# Altium footprint library aiskylab-14Connectors-01FFC-FPC.PcbLib: 118 footprints (part 5 of 8)
Each footprint in its own frame and in the unit in brackets; x right, y up, seen from the top. Pads: shape width x height; smd on the part's side, far side on the other; paste and mask are expansions set on the pad; w line width, h text height; cw(c..) or ccw(c..) is an arc to the next point about the centre after c.
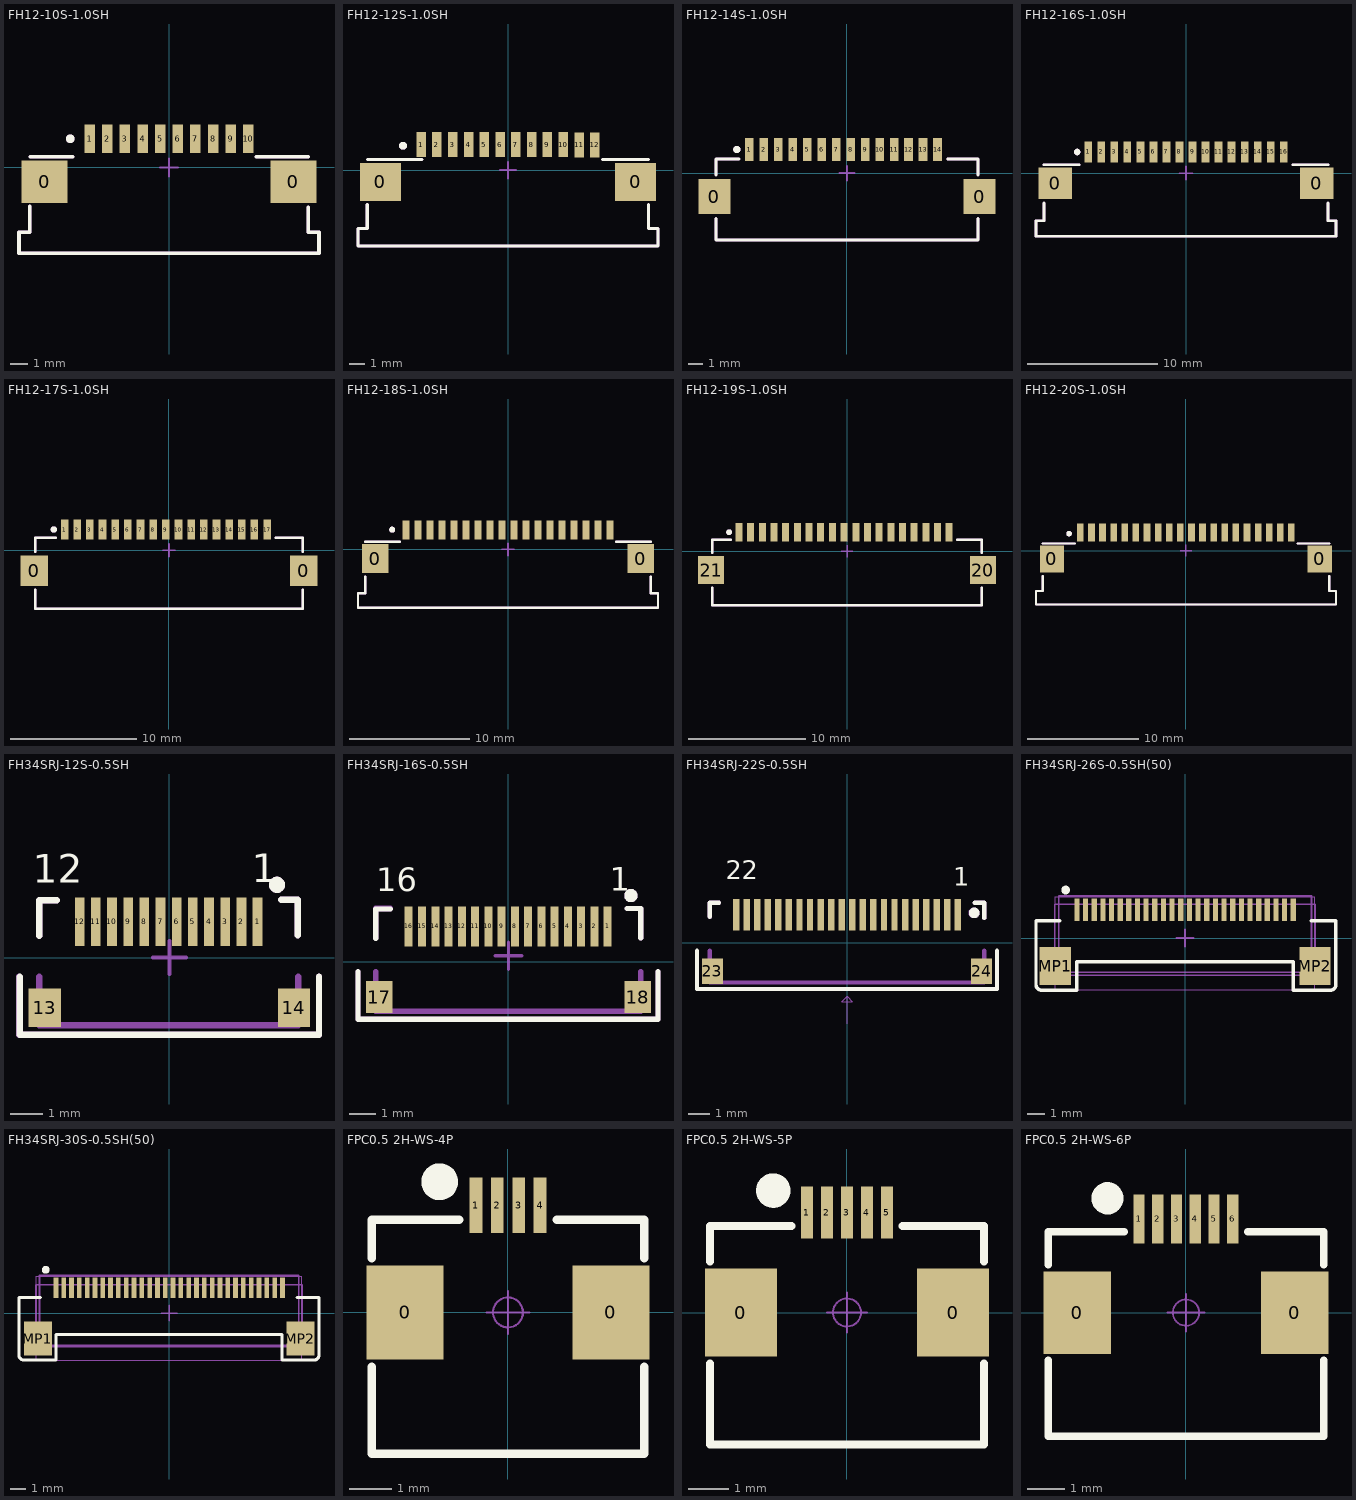
[diagram p4: the footprints below, top view; thin cyan lines are the x and y axes]

## FH12-10S-1.0SH [mm] "Connector; FH12 Series; 10 Position; 1.0mm Spaced Bottom Eccentric Contact"
height 2
pads (12):
  rect 2.6x2.4 smd: 0(-7.061,-0.813) 0(7.061,-0.813)
  rect 0.6x1.6 smd: 1(-4.5,1.625) 2(-3.5,1.625) 3(-2.5,1.625) 4(-1.5,1.625) 5(-0.5,1.625) 6(0.5,1.625) 7(1.5,1.625) 8(2.5,1.625) 9(3.5,1.625) 10(4.5,1.625)
Top Overlay:
  circle w0.25: c-5.6,1.625 r0.125
  lines w0.2: -7.899,-2.21 -7.899,-3.683 -8.509,-3.683 -8.509,-4.877 8.509,-4.877 8.509,-3.683 7.899,-3.683 7.899,-2.261 ; -7.874,0.61 -5.45,0.61 ; 4.95,0.61 7.899,0.61
Top Assembly:
  circle w0.25: c-5.6,1.625 r0.125
  lines w0.2: -7.899,-2.21 -7.899,-3.683 -8.509,-3.683 -8.509,-4.877 8.509,-4.877 8.509,-3.683 7.899,-3.683 7.899,-2.261 ; -7.874,0.61 -5.45,0.61 ; 4.95,0.61 7.899,0.61
Top Component Center:
  lines w0.127: -0.508,0 0.508,0 ; 0,-0.508 0,0.508
3D body: height 2.8, standoff 0, extent -8.5,-4.89 8.5,1.91

## FH12-12S-1.0SH [mm] "Connector; FH12 Series; 10 Position; 1.0mm Spaced Bottom Eccentric Contact"
height 2
pads (14):
  rect 2.6x2.4 smd: 0(-8.077,-0.737) 0(8.077,-0.737)
  rect 0.6x1.6 smd: 1(-5.5,1.625) 2(-4.5,1.625) 3(-3.5,1.625) 4(-2.5,1.625) 5(-1.5,1.625) 6(-0.5,1.625) 7(0.5,1.625) 8(1.5,1.625) 9(2.5,1.625) 10(3.5,1.625) 11(4.5,1.6) 12(5.5,1.6)
Top Overlay:
  circle w0.25: c-6.655,1.549 r0.125
  lines w0.2: -8.915,-2.159 -8.915,-3.683 -9.5,-3.683 -9.5,-4.801 9.5,-4.801 9.5,-3.683 8.89,-3.683 8.89,-2.159 ; -8.89,0.686 -5.45,0.686 ; 6,0.686 8.89,0.686
Top Assembly:
  circle w0.25: c-6.655,1.549 r0.125
  lines w0.2: -8.915,-2.159 -8.915,-3.683 -9.5,-3.683 -9.5,-4.801 9.5,-4.801 9.5,-3.683 8.89,-3.683 8.89,-2.159 ; -8.89,0.686 -5.45,0.686 ; 6,0.686 8.89,0.686
Top Component Center:
  lines w0.127: -0.508,0 0.508,0 ; 0,-0.508 0,0.508
3D body: height 2.8, standoff 0, extent -9.5,-4.89 9.5,1.91

## FH12-14S-1.0SH [mm] "Connector; FH12 Series; 14 Position; 1.0mm Spaced Bottom Eccentric Contact"
height 2
pads (16):
  rect 2.2x2.4 smd: 0(-9.15,-1.625) 0(9.15,-1.625)
  rect 0.6x1.6 smd: 1(-6.75,1.625) 2(-5.75,1.625) 3(-4.75,1.625) 4(-3.75,1.625) 5(-2.75,1.625) 6(-1.75,1.625) 7(-0.75,1.625) 8(0.25,1.625) 9(1.25,1.625) 10(2.25,1.625) 11(3.25,1.625) 12(4.25,1.625) 13(5.25,1.625) 14(6.25,1.625)
Top Overlay:
  circle w0.25: c-7.6,1.625 r0.125
  lines w0.2: -9.05,-3.125 -9.05,-4.625 9.05,-4.625 9.05,-3.125 ; -9.05,-0.125 -9.05,0.975 -7.45,0.975 ; 6.95,0.975 9.05,0.975 9.05,-0.125
Top Assembly:
  circle w0.25: c-7.6,1.625 r0.125
  lines w0.2: -9.05,-3.125 -9.05,-4.625 9.05,-4.625 9.05,-3.125 ; -9.05,-0.125 -9.05,0.975 -7.45,0.975 ; 6.95,0.975 9.05,0.975 9.05,-0.125
Top Component Center:
  lines w0.127: -0.508,0 0.508,0 ; 0,-0.508 0,0.508

## FH12-16S-1.0SH [mm] "Connector; FH12 Series; 16 Position; 1.0mm Spaced Bottom Standard Contact"
height 2
pads (18):
  rect 2.6x2.4 smd: 0(-10.033,-0.762) 0(10.033,-0.762)
  rect 0.6x1.6 smd: 1(-7.5,1.625) 2(-6.5,1.625) 3(-5.5,1.625) 4(-4.5,1.625) 5(-3.5,1.625) 6(-2.5,1.625) 7(-1.5,1.625) 8(-0.5,1.625) 9(0.5,1.625) 10(1.5,1.625) 11(2.5,1.625) 12(3.5,1.625) 13(4.5,1.625) 14(5.5,1.625) 15(6.5,1.625) 16(7.5,1.625)
Top Overlay:
  circle w0.25: c-8.35,1.625 r0.125
  lines w0.2: -10.897,-2.286 -10.897,-3.652 -11.506,-3.652 -11.506,-4.851 11.506,-4.851 11.506,-3.652 10.897,-3.652 10.897,-2.286 ; -10.897,0.635 -8.2,0.635 ; 8.2,0.635 10.897,0.635
Top Assembly:
  circle w0.25: c-8.35,1.625 r0.125
  lines w0.2: -10.897,-2.286 -10.897,-3.652 -11.506,-3.652 -11.506,-4.851 11.506,-4.851 11.506,-3.652 10.897,-3.652 10.897,-2.286 ; -10.897,0.635 -8.2,0.635 ; 8.2,0.635 10.897,0.635
Top Component Center:
  lines w0.127: -0.508,0 0.508,0 ; 0,-0.508 0,0.508
3D body: height 2.8, standoff 0, extent -11.557,-4.895 11.443,1.905

## FH12-17S-1.0SH [mm] "Connector; FH12 Series; 17 Position; 1.0mm Spaced Bottom Eccentric Contact"
height 2
pads (19):
  rect 2.2x2.4 smd: 0(-10.65,-1.625) 0(10.65,-1.625)
  rect 0.6x1.6 smd: 1(-8.25,1.625) 2(-7.25,1.625) 3(-6.25,1.625) 4(-5.25,1.625) 5(-4.25,1.625) 6(-3.25,1.625) 7(-2.25,1.625) 8(-1.25,1.625) 9(-0.25,1.625) 10(0.75,1.625) 11(1.75,1.625) 12(2.75,1.625) 13(3.75,1.625) 14(4.75,1.625) 15(5.75,1.625) 16(6.75,1.625) 17(7.75,1.625)
Top Overlay:
  circle w0.25: c-9.1,1.625 r0.125
  lines w0.2: -10.55,-3.125 -10.55,-4.625 10.55,-4.625 10.55,-3.125 ; -10.55,-0.125 -10.55,0.975 -8.95,0.975 ; 8.45,0.975 10.55,0.975 10.55,-0.125
Top Assembly:
  circle w0.25: c-9.1,1.625 r0.125
  lines w0.2: -10.55,-3.125 -10.55,-4.625 10.55,-4.625 10.55,-3.125 ; -10.55,-0.125 -10.55,0.975 -8.95,0.975 ; 8.45,0.975 10.55,0.975 10.55,-0.125
Top Component Center:
  lines w0.127: -0.508,0 0.508,0 ; 0,-0.508 0,0.508

## FH12-18S-1.0SH [mm] "Connector; FH12 Series; 18 Position; 1.0mm Spaced Bottom Standard Contact"
height 2
pads (20):
  rect 2.2x2.4 smd: 0(-11.049,-0.762) 0(11.049,-0.762)
  rect 0.6x1.6 smd: 1(-8.5,1.625) 2(-7.5,1.625) 3(-6.5,1.625) 4(-5.5,1.625) 5(-4.5,1.625) 6(-3.5,1.625) 7(-2.5,1.625) 8(-1.5,1.625) 9(-0.5,1.625) 10(0.5,1.625) 11(1.5,1.625) 12(2.5,1.625) 13(3.5,1.625) 14(4.5,1.625) 15(5.5,1.625) 16(6.5,1.625) 17(7.5,1.625) 18(8.5,1.625)
Top Overlay:
  circle w0.25: c-9.652,1.651 r0.125
  lines w0.2: -12.5,-4.851 12.5,-4.851 12.5,-3.655 11.89,-3.655 11.89,-2.29 ; -12.501,-4.85 -12.501,-3.651 -11.892,-3.651 -11.892,-2.285 ; -11.9,0.635 -9,0.635 ; 9,0.635 11.9,0.635
Top Assembly:
  circle w0.25: c-9.652,1.651 r0.125
  lines w0.2: -12.5,-4.851 12.5,-4.851 12.5,-3.655 11.89,-3.655 11.89,-2.29 ; -12.501,-4.85 -12.501,-3.651 -11.892,-3.651 -11.892,-2.285 ; -11.9,0.635 -9,0.635 ; 9,0.635 11.9,0.635
Top Component Center:
  lines w0.127: -0.508,0 0.508,0 ; 0,-0.508 0,0.508
3D body: height 2.8, standoff 0, extent -12.5,-4.865 12.5,1.935

## FH12-19S-1.0SH [mm] "Connector; FH12 Series; 19 Position; 1.0mm Spaced Bottom Eccentric Contact"
height 2
pads (21):
  rect 0.6x1.6 smd: 1(-9.25,1.625) 2(-8.25,1.625) 3(-7.25,1.625) 4(-6.25,1.625) 5(-5.25,1.625) 6(-4.25,1.625) 7(-3.25,1.625) 8(-2.25,1.625) 9(-1.25,1.625) 10(-0.25,1.625) 11(0.75,1.625) 12(1.75,1.625) 13(2.75,1.625) 14(3.75,1.625) 15(4.75,1.625) 16(5.75,1.625) 17(6.75,1.625) 18(7.75,1.625) 19(8.75,1.625)
  rect 2.2x2.4 smd: 20(11.65,-1.625) 21(-11.65,-1.625)
Top Overlay:
  circle w0.25: c-10.1,1.625 r0.125
  lines w0.2: -11.55,-3.125 -11.55,-4.625 11.55,-4.625 11.55,-3.125 ; -11.55,-0.125 -11.55,0.975 -9.95,0.975 ; 9.45,0.975 11.55,0.975 11.55,-0.125
Top Assembly:
  circle w0.25: c-10.1,1.625 r0.125
  lines w0.2: -11.55,-3.125 -11.55,-4.625 11.55,-4.625 11.55,-3.125 ; -11.55,-0.125 -11.55,0.975 -9.95,0.975 ; 9.45,0.975 11.55,0.975 11.55,-0.125
Top Component Center:
  lines w0.127: -0.508,0 0.508,0 ; 0,-0.508 0,0.508

## FH12-20S-1.0SH [mm] "Connector; FH12 Series; 20 Position; 1.0mm Spaced Bottom Standard Contact"
height 2
pads (22):
  rect 2.2x2.4 smd: 0(-12.049,-0.762) 0(12.049,-0.762)
  rect 0.6x1.6 smd: 1(-9.5,1.625) 2(-8.5,1.625) 3(-7.5,1.625) 4(-6.5,1.625) 5(-5.5,1.625) 6(-4.5,1.625) 7(-3.5,1.625) 8(-2.5,1.625) 9(-1.5,1.625) 10(-0.5,1.625) 11(0.5,1.625) 12(1.5,1.625) 13(2.5,1.625) 14(3.5,1.625) 15(4.5,1.625) 16(5.5,1.625) 17(6.5,1.625) 18(7.5,1.625) 19(8.5,1.625) 20(9.5,1.625)
Top Overlay:
  circle w0.25: c-10.516,1.524 r0.125
  lines w0.2: -13.489,-4.85 -13.489,-3.651 -12.879,-3.651 -12.879,-2.285 ; -13.487,-4.851 13.513,-4.851 13.513,-3.655 12.903,-3.655 12.903,-2.29 ; -12.903,0.635 -10.003,0.635 ; 10.054,0.635 12.903,0.635
Top Assembly:
  circle w0.25: c-10.516,1.524 r0.125
  lines w0.2: -13.489,-4.85 -13.489,-3.651 -12.879,-3.651 -12.879,-2.285 ; -13.487,-4.851 13.513,-4.851 13.513,-3.655 12.903,-3.655 12.903,-2.29 ; -12.903,0.635 -10.003,0.635 ; 10.054,0.635 12.903,0.635
Top Component Center:
  lines w0.127: -0.508,0 0.508,0 ; 0,-0.508 0,0.508
3D body: height 2.8, standoff 0, extent -13.5,-4.865 13.5,1.935

## FH34SRJ-12S-0.5SH [mm]
pads (14):
  rect 0.3x1.5 smd: 1(2.725,1.112) 2(2.225,1.112) 3(1.725,1.112) 4(1.225,1.112) 5(0.725,1.112) 6(0.225,1.112) 7(-0.275,1.112) 8(-0.775,1.112) 9(-1.275,1.112) 10(-1.775,1.112) 11(-2.275,1.112) 12(-2.775,1.112)
  rect 1x1.2 smd: 13(-3.85,-1.55) 14(3.85,-1.55)
Top Overlay:
  circle w0.25: c3.325,2.25 r0.125
  lines w0.2: -4.623,-0.587 -4.623,-2.388 4.623,-2.388 4.623,-0.587 ; -4.022,0.669 -4.022,1.769 -3.48,1.769 ; 3.454,1.787 3.967,1.787 3.967,0.687
  text "1" at 2.55,2.039 h1.5
  text "12" at -4.225,2.014 h1.5
Top Designator:
  text ".Designator" at -7.618,-0.195 h1.52
Top Assembly:
  circle w0.25: c3.325,2.25 r0.125
  lines w0.2: -4.025,-0.587 -4.025,-2.087 3.975,-2.087 3.975,-0.587 ; -4.022,0.669 -4.022,1.769 -3.48,1.769 ; 3.454,1.787 3.967,1.787 3.967,0.687
  text "1" at 2.55,2.039 h1.5
  text "12" at -4.225,2.014 h1.5
Top Component Center:
  lines w0.127: -0.508,0 0.508,0 ; 0,-0.508 0,0.508
Top Component Outline:
  circle w0.25: c3.325,2.25 r0.125
  lines w0.2: -4.648,-0.587 -4.648,-2.388 4.623,-2.388 4.623,-0.587 ; -4.022,0.669 -4.022,1.769 -3.48,1.769 ; 3.454,1.787 3.967,1.787 3.967,0.687
3D body: height 1, standoff 0, extent -4.025,-2.012 3.975,1.788

## FH34SRJ-16S-0.5SH [mm]
pads (18):
  rect 0.3x1.5 smd: 1(3.743,1.331) 2(3.243,1.331) 3(2.743,1.331) 4(2.243,1.331) 5(1.743,1.331) 6(1.243,1.331) 7(0.743,1.331) 8(0.243,1.331) 9(-0.257,1.331) 10(-0.757,1.331) 11(-1.257,1.331) 12(-1.757,1.331) 13(-2.257,1.331) 14(-2.757,1.331) 15(-3.257,1.331) 16(-3.768,1.331)
  rect 1x1.2 smd: 17(-4.868,-1.331) 18(4.868,-1.331)
Top Overlay:
  circle w0.25: c4.618,2.494 r0.125
  lines w0.2: -5.675,-0.369 -5.675,-2.169 5.64,-2.169 5.64,-0.369 ; -5.004,0.888 -5.004,1.988 -4.462,1.988 ; 4.472,2.006 4.985,2.006 4.985,0.906
  text "1" at 3.818,2.383 h1.5
  text "16" at -4.982,2.358 h1.5
Top Designator:
  text ".Designator" at -7.618,0.017 h1.52
Top Assembly:
  circle w0.25: c4.618,2.494 r0.125
  lines w0.2: -5,-0.369 -5,-1.869 4.993,-1.869 4.993,-0.369 ; -5,0.9 -5,2 -4.458,2 ; 4.472,2.006 4.985,2.006 4.985,0.906
  text "1" at 3.818,2.383 h1.5
  text "16" at -4.982,2.358 h1.5
Top Component Center:
  lines w0.127: -0.508,0.225 0.508,0.225 ; 0,-0.283 0,0.733
Top Component Outline:
  circle w0.25: c4.618,2.494 r0.125
  lines w0.2: -5.675,-0.369 -5.675,-2.169 5.64,-2.169 5.64,-0.369 ; -5.004,0.913 -5.004,2.013 -4.462,2.013 ; 4.472,2.006 4.985,2.006 4.985,0.906
3D body: height 1, standoff 0, extent -5,-1.9 5,1.9

## FH34SRJ-22S-0.5SH [mm]
pads (24):
  rect 0.3x1.5 smd: 1(5.25,1.331) 2(4.75,1.331) 3(4.25,1.331) 4(3.75,1.331) 5(3.25,1.331) 6(2.75,1.331) 7(2.25,1.331) 8(1.75,1.331) 9(1.25,1.331) 10(0.75,1.331) 11(0.25,1.331) 12(-0.25,1.331) 13(-0.75,1.331) 14(-1.25,1.331) 15(-1.75,1.331) 16(-2.25,1.331) 17(-2.75,1.331) 18(-3.25,1.331) 19(-3.75,1.331) 20(-4.25,1.331) 21(-4.75,1.331) 22(-5.25,1.331)
  rect 1x1.2 smd: 23(-6.375,-1.331) 24(6.375,-1.331)
Top Overlay:
  circle w0.25: c6.025,1.425 r0.125
  lines w0.2: -7.1,-0.369 -7.1,-2.175 7.1,-2.175 7.1,-0.369 ; -6.5,1.238 -6.5,1.9 -6.058,1.9 ; 6.05,1.9 6.492,1.9 6.492,1.181
  text "1" at 5.025,2.4 h1.5
  text "22" at -5.75,2.7 h1.5
Top Designator:
  text ".Designator" at -3.434,-0.345 h1.52
Top Assembly:
  circle w0.25: c6.025,1.425 r0.125
  lines w0.05: 0,-3.825 0,-2.775 ; 0,-2.775 -0.25,-2.775 0,-2.525 ; 0,-2.775 0,-2.525 ; 0,-2.775 0,-2.525 ; 0,-2.775 0.25,-2.775 0,-2.525
  lines w0.2: -6.5,-0.369 -6.5,-1.869 6.5,-1.869 6.5,-0.369 ; -6.5,1.238 -6.5,1.9 -6.058,1.9 ; 6.05,1.9 6.492,1.9 6.492,1.181
Top Component Outline:
  circle w0.25: c6,1.425 r0.125
  lines w0.2: -6.5,-0.369 -6.5,-1.869 6.5,-1.869 6.5,-0.369 ; -6.5,1.238 -6.5,1.9 -6.058,1.9 ; 6.05,1.9 6.492,1.9 6.492,1.181
3D body: height 1, standoff 0, extent -6.5,-1.9 6.5,1.9

## FH34SRJ-26S-0.5SH(50) [mm]
pads (28):
  rect 0.3x1.3 smd paste-0.025: 1(-6.25,1.625) 2(-5.75,1.625) 3(-5.25,1.625) 4(-4.75,1.625) 5(-4.25,1.625) 6(-3.75,1.625) 7(-3.25,1.625) 8(-2.75,1.625) 9(-2.25,1.625) 10(-1.75,1.625) 11(-1.25,1.625) 12(-0.75,1.625) 13(-0.25,1.625) 14(0.25,1.625) 15(0.75,1.625) 16(1.25,1.625) 17(1.75,1.625) 18(2.25,1.625) 19(2.75,1.625) 20(3.25,1.625) 21(3.75,1.625) 22(4.25,1.625) 23(4.75,1.625) 24(5.25,1.625) 25(5.75,1.625) 26(6.25,1.625)
  rect 1.8x2.2 smd: MP1(-7.5,-1.625) MP2(7.5,-1.625)
Top Overlay:
  circle w0.25: c-6.9,2.775 r0.125
  lines w0.2: -7.25,1 -8.612,1 -8.612,-2.705 ccw(c-8.3,-2.692) -8.287,-3.005 -6.25,-3.005 -6.25,-1.375 6.25,-1.375 6.25,-3.005 8.375,-3.005 ; 7.3,1 8.663,1 ; 8.338,-3.005 ccw(c8.387,-2.68) 8.713,-2.73 8.713,1
Top Designator:
  text ".Designator" at -6.618,-0.483 h1.52
Top Assembly:
  lines w0.1: -7.3,2.425 7.3,2.425 7.3,-2.15 -7.3,-2.15 -7.3,2.425
  text "1" at -7.1,2.625 h1.14
Top Component Center:
  lines w0.1: -0.5,0 0.5,0 ; 0,-0.5 0,0.5
Top Component Outline:
  lines w0.05: -7.5,-3 -7.5,2.375 7.5,2.375 7.5,-3 -7.5,-3
Top 3D Body:
  lines w0.1: -7.525,-1.975 -7.525,1.95 7.525,1.95 7.525,-1.975 -7.525,-1.975
3D body: height 1, standoff 0, extent -7.5,-1.9 7.5,1.9

## FH34SRJ-30S-0.5SH(50) [mm]
pads (32):
  rect 0.3x1.3 smd paste-0.025: 1(-7.25,1.625) 2(-6.75,1.625) 3(-6.25,1.625) 4(-5.75,1.625) 5(-5.25,1.625) 6(-4.75,1.625) 7(-4.25,1.625) 8(-3.75,1.625) 9(-3.25,1.625) 10(-2.75,1.625) 11(-2.25,1.625) 12(-1.75,1.625) 13(-1.25,1.625) 14(-0.75,1.625) 15(-0.25,1.625) 16(0.25,1.625) 17(0.75,1.625) 18(1.25,1.625) 19(1.75,1.625) 20(2.25,1.625) 21(2.75,1.625) 22(3.25,1.625) 23(3.75,1.625) 24(4.25,1.625) 25(4.75,1.625) 26(5.25,1.625) 27(5.75,1.625) 28(6.25,1.625) 29(6.75,1.625) 30(7.25,1.625)
  rect 1.8x2.2 smd: MP1(-8.4,-1.625) MP2(8.4,-1.625)
Top Overlay:
  circle w0.25: c-7.9,2.775 r0.125
  lines w0.2: -8.25,1 -9.613,1 -9.613,-2.705 ccw(c-9.3,-2.692) -9.287,-3.005 -7.25,-3.005 -7.25,-1.375 7.225,-1.375 7.225,-3.005 9.213,-3.005 ccw(c9.262,-2.68) 9.588,-2.73 9.588,1 ; 8.175,1 9.538,1
Top Designator:
  text ".Designator" at -7.618,-0.483 h1.52
Top Assembly:
  lines w0.1: -8.3,2.425 8.3,2.425 8.3,-2.15 -8.3,-2.15 -8.3,2.425
  text "30" at 6.125,2.675 h1.14
  text "1" at 1.5,0.9 h1.14
Top Component Center:
  lines w0.1: -0.5,0 0.5,0 ; 0,-0.5 0,0.5
Top Component Outline:
  lines w0.05: -8.5,-3 -8.5,2.375 8.5,2.375 8.5,-3 -8.5,-3
  lines w0.1: -0.5,0 0.5,0 ; 0,-0.5 0,0.5
Top 3D Body:
  lines w0.1: -8.525,-2.05 -8.525,1.825 8.525,1.825 8.525,-2.05 8.25,-2.05 -8.525,-2.05
3D body "FH34SRJ-30S-0.5SH.stp": height 1, standoff 0, extent -8.5,-2 8.5,1.8

## FPC0.5 2H-WS-4P [mm] "长：6.2mm，宽：5.2mm，高：2mm"
pads (6):
  rect 1.8x2.2 smd: 0(-2.4,0) 0(2.4,0)
  rect 0.3x1.3 smd: 1(-0.75,2.497) 2(-0.25,2.497) 3(0.25,2.497) 4(0.75,2.497)
Top Overlay:
  circle w0.5: c-1.594,3.048 r0.18
  lines w0.2: -3.175,-1.27 -3.175,-3.302 3.175,-3.302 3.175,-1.27 ; -3.175,1.27 -3.175,2.159 -1.143,2.159 ; 1.143,2.159 3.175,2.159 3.175,1.27
Top Component Center:
  circle w0.05: c0,0 r0.35
  lines w0.05: -0.5,0 0.5,0 ; 0,-0.5 0,0.5
3D body: height 2, standoff -0.01, extent -3.1,-3.15 3.1,2.85

## FPC0.5 2H-WS-5P [mm] "长：6.7mm，宽：5.2mm，高：2mm"
pads (7):
  rect 1.8x2.2 smd: 0(-2.65,0) 0(2.65,0)
  rect 0.3x1.3 smd: 1(-1,2.497) 2(-0.5,2.497) 3(0,2.497) 4(0.5,2.497) 5(1,2.497)
Top Overlay:
  circle w0.5: c-1.844,3.048 r0.18
  lines w0.2: -3.425,-1.27 -3.425,-3.302 3.425,-3.302 3.425,-1.27 ; -3.425,1.27 -3.425,2.159 -1.393,2.159 ; 1.393,2.159 3.425,2.159 3.425,1.27
Top Component Center:
  circle w0.05: c0,0 r0.35
  lines w0.05: -0.5,0 0.5,0 ; 0,-0.5 0,0.5
3D body: height 2, standoff -0.01, extent -3.35,-3.15 3.35,2.85

## FPC0.5 2H-WS-6P [mm] "长：7.2mm，宽：5.2mm，高：2mm"
pads (8):
  rect 1.8x2.2 smd: 0(-2.9,0) 0(2.9,0)
  rect 0.3x1.3 smd: 1(-1.25,2.497) 2(-0.75,2.497) 3(-0.25,2.497) 4(0.25,2.497) 5(0.75,2.497) 6(1.25,2.497)
Top Overlay:
  circle w0.5: c-2.094,3.048 r0.18
  lines w0.2: -3.675,-1.27 -3.675,-3.302 3.675,-3.302 3.675,-1.27 ; -3.675,1.27 -3.675,2.159 -1.643,2.159 ; 1.643,2.159 3.675,2.159 3.675,1.27
Top Component Center:
  circle w0.05: c0,0 r0.35
  lines w0.05: -0.5,0 0.5,0 ; 0,-0.5 0,0.5
3D body: height 2, standoff -0.01, extent -3.6,-3.15 3.6,2.85